# Altium footprint library Discretes.PCBLIB: 77 footprints (part 4 of 5)
Each footprint in its own frame and in the unit in brackets; x right, y up, seen from the top. Pads: shape width x height; smd on the part's side, far side on the other; paste and mask are expansions set on the pad; w line width, h text height; cw(c..) or ccw(c..) is an arc to the next point about the centre after c.
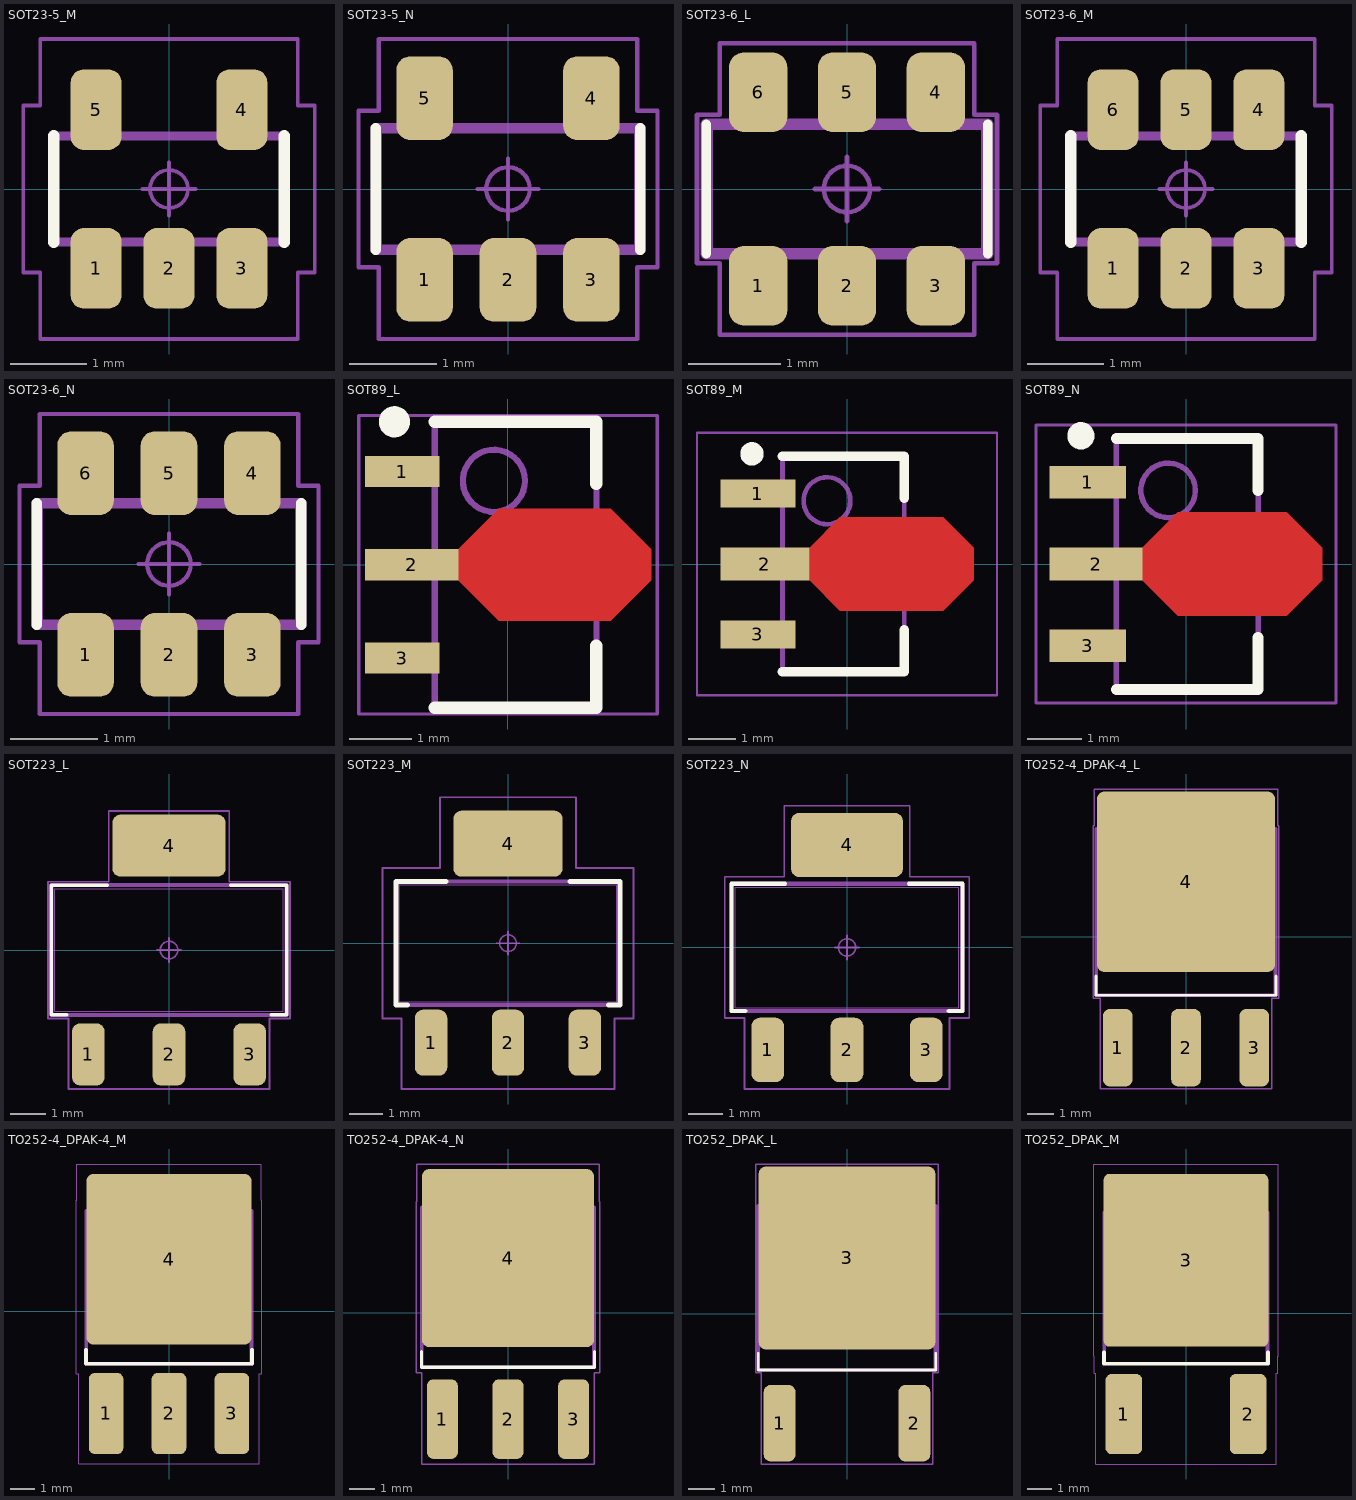
[diagram p3: the footprints below, top view; thin cyan lines are the x and y axes]

## SOT23-5_M [mm] "Small Outline Transistor (SOT23), 0.96 mm pitch; 5 pin, 2.92 mm L X 1.30 mm W X 1.12 mm H body"
height 1.12
pads (5):
  rrect51% 0.67x1.06 smd: 1(-0.96,-1.045) 2(0,-1.045) 3(0.96,-1.045) 4(0.96,1.045) 5(-0.96,1.045)
Top Overlay:
  lines w0.15: -1.52,-0.7 -1.52,0.7 ; 1.52,-0.7 1.52,0.7
Top Body, 3D Models:
  lines w0.025: -1.46,-0.65 1.46,-0.65 1.46,0.65 -1.46,0.65 -1.46,-0.65
Top Courtyard:
  circle w0.05: c0,0 r0.25
  lines w0.05: -0.35,0 0.35,0 ; 0,-0.35 0,0.35 ; -1.92,-1.1 -1.695,-1.1 -1.695,-1.975 1.695,-1.975 1.695,-1.1 1.92,-1.1 1.92,1.1 1.695,1.1 1.695,1.975 -1.695,1.975 -1.695,1.1 -1.92,1.1 -1.92,-1.1
Top DesignatorDoc:
  text ".Designator" at 0,0 h1.5
Top Pad Outlines:
  lines w0.025: -1.18,-1.185 -1.18,-0.96 -0.74,-0.96 -0.74,-1.185 -1.18,-1.185 ; -1.18,0.96 -1.18,1.185 -0.74,1.185 -0.74,0.96 -1.18,0.96 ; -0.22,-1.185 -0.22,-0.96 0.22,-0.96 0.22,-1.185 -0.22,-1.185 ; 0.74,-1.185 0.74,-0.96 1.18,-0.96 1.18,-1.185 0.74,-1.185 ; 0.74,0.96 0.74,1.185 1.18,1.185 1.18,0.96 0.74,0.96
Top Assembly Outline:
  lines w0.12: -1.52,-0.7 1.52,-0.7 1.52,0.7 -1.52,0.7 -1.52,-0.7
3D body "SOT23-5_M.STEP": height 1.12, standoff 0, extent -1.46,-1.185 1.46,1.185

## SOT23-5_N [mm] "Small Outline Transistor (SOT23), 0.96 mm pitch; 5 pin, 2.92 mm L X 1.30 mm W X 1.12 mm H body"
height 1.12
pads (5):
  rrect49% 0.65x0.96 smd: 1(-0.96,-1.045) 2(0,-1.045) 3(0.96,-1.045) 4(0.96,1.045) 5(-0.96,1.045)
Top Overlay:
  lines w0.12: -1.52,-0.7 -1.52,0.7 ; 1.52,-0.7 1.52,0.7
Top Body, 3D Models:
  lines w0.025: -1.46,-0.65 1.46,-0.65 1.46,0.65 -1.46,0.65 -1.46,-0.65
Top Courtyard:
  circle w0.05: c0,0 r0.25
  lines w0.05: -0.35,0 0.35,0 ; 0,-0.35 0,0.35 ; -1.72,-0.9 -1.485,-0.9 -1.485,-1.725 1.485,-1.725 1.485,-0.9 1.72,-0.9 1.72,0.9 1.485,0.9 1.485,1.725 -1.485,1.725 -1.485,0.9 -1.72,0.9 -1.72,-0.9
Top DesignatorDoc:
  text ".Designator" at 0,0 h1.2
Top Pad Outlines:
  lines w0.025: -1.18,-1.185 -1.18,-0.96 -0.74,-0.96 -0.74,-1.185 -1.18,-1.185 ; -1.18,0.96 -1.18,1.185 -0.74,1.185 -0.74,0.96 -1.18,0.96 ; -0.22,-1.185 -0.22,-0.96 0.22,-0.96 0.22,-1.185 -0.22,-1.185 ; 0.74,-1.185 0.74,-0.96 1.18,-0.96 1.18,-1.185 0.74,-1.185 ; 0.74,0.96 0.74,1.185 1.18,1.185 1.18,0.96 0.74,0.96
Top Assembly Outline:
  lines w0.12: -1.52,-0.7 1.52,-0.7 1.52,0.7 -1.52,0.7 -1.52,-0.7
3D body "SOT23-5_N.STEP": height 1.12, standoff 0, extent -1.46,-1.185 1.46,1.185

## SOT23-6_L [mm] "Small Outline Transistor (SOT23), 0.96 mm pitch; 6 pin, 2.92 mm L X 1.30 mm W X 1.12 mm H body"
height 1.12
pads (6):
  rrect51% 0.63x0.86 smd: 1(-0.96,-1.045) 2(0,-1.045) 3(0.96,-1.045) 4(0.96,1.045) 5(0,1.045) 6(-0.96,1.045)
Top Overlay:
  lines w0.1: -1.52,-0.7 -1.52,0.7 ; 1.52,-0.7 1.52,0.7
Top Body, 3D Models:
  lines w0.025: -1.46,-0.65 -1.46,0.65 1.46,0.65 1.46,-0.65 -1.46,-0.65
Top Courtyard:
  circle w0.05: c0,0 r0.25
  lines w0.05: -0.35,0 0.35,0 ; 0,-0.35 0,0.35 ; -1.62,-0.8 -1.62,0.8 -1.375,0.8 -1.375,1.575 1.375,1.575 1.375,0.8 1.62,0.8 1.62,-0.8 1.375,-0.8 1.375,-1.575 -1.375,-1.575 -1.375,-0.8 -1.62,-0.8
Top DesignatorDoc:
  text ".Designator" at 0,0 h1
Top Pad Outlines:
  lines w0.025: -1.18,-1.185 -0.74,-1.185 -0.74,-0.96 -1.18,-0.96 -1.18,-1.185 ; -1.18,0.96 -0.74,0.96 -0.74,1.185 -1.18,1.185 -1.18,0.96 ; -0.22,-1.185 0.22,-1.185 0.22,-0.96 -0.22,-0.96 -0.22,-1.185 ; -0.22,0.96 0.22,0.96 0.22,1.185 -0.22,1.185 -0.22,0.96 ; 0.74,-1.185 1.18,-1.185 1.18,-0.96 0.74,-0.96 0.74,-1.185 ; 0.74,0.96 1.18,0.96 1.18,1.185 0.74,1.185 0.74,0.96
Top Assembly Outline:
  lines w0.12: -1.52,-0.7 -1.52,0.7 1.52,0.7 1.52,-0.7 -1.52,-0.7
3D body "SOT23-6_L.STEP": height 1.12, standoff 0, extent -1.46,-1.185 1.46,1.185

## SOT23-6_M [mm] "Small Outline Transistor (SOT23), 0.96 mm pitch; 6 pin, 2.92 mm L X 1.30 mm W X 1.12 mm H body"
height 1.12
pads (6):
  rrect51% 0.67x1.06 smd: 1(-0.96,-1.045) 2(0,-1.045) 3(0.96,-1.045) 4(0.96,1.045) 5(0,1.045) 6(-0.96,1.045)
Top Overlay:
  lines w0.15: -1.52,-0.7 -1.52,0.7 ; 1.52,-0.7 1.52,0.7
Top Body, 3D Models:
  lines w0.025: -1.46,-0.65 1.46,-0.65 1.46,0.65 -1.46,0.65 -1.46,-0.65
Top Courtyard:
  circle w0.05: c0,0 r0.25
  lines w0.05: -0.35,0 0.35,0 ; 0,-0.35 0,0.35 ; -1.92,-1.1 -1.695,-1.1 -1.695,-1.975 1.695,-1.975 1.695,-1.1 1.92,-1.1 1.92,1.1 1.695,1.1 1.695,1.975 -1.695,1.975 -1.695,1.1 -1.92,1.1 -1.92,-1.1
Top DesignatorDoc:
  text ".Designator" at 0,0 h1.5
Top Pad Outlines:
  lines w0.025: -1.18,-1.185 -1.18,-0.96 -0.74,-0.96 -0.74,-1.185 -1.18,-1.185 ; -1.18,0.96 -1.18,1.185 -0.74,1.185 -0.74,0.96 -1.18,0.96 ; -0.22,-1.185 -0.22,-0.96 0.22,-0.96 0.22,-1.185 -0.22,-1.185 ; -0.22,0.96 -0.22,1.185 0.22,1.185 0.22,0.96 -0.22,0.96 ; 0.74,-1.185 0.74,-0.96 1.18,-0.96 1.18,-1.185 0.74,-1.185 ; 0.74,0.96 0.74,1.185 1.18,1.185 1.18,0.96 0.74,0.96
Top Assembly Outline:
  lines w0.12: -1.52,-0.7 1.52,-0.7 1.52,0.7 -1.52,0.7 -1.52,-0.7
3D body "SOT23-6_M.STEP": height 1.12, standoff 0, extent -1.46,-1.185 1.46,1.185

## SOT23-6_N [mm] "Small Outline Transistor (SOT23), 0.96 mm pitch; 6 pin, 2.92 mm L X 1.30 mm W X 1.12 mm H body"
height 1.12
pads (6):
  rrect49% 0.65x0.96 smd: 1(-0.96,-1.045) 2(0,-1.045) 3(0.96,-1.045) 4(0.96,1.045) 5(0,1.045) 6(-0.96,1.045)
Top Overlay:
  lines w0.12: -1.52,-0.7 -1.52,0.7 ; 1.52,-0.7 1.52,0.7
Top Body, 3D Models:
  lines w0.025: -1.46,-0.65 1.46,-0.65 1.46,0.65 -1.46,0.65 -1.46,-0.65
Top Courtyard:
  circle w0.05: c0,0 r0.25
  lines w0.05: -0.35,0 0.35,0 ; 0,-0.35 0,0.35 ; -1.72,-0.9 -1.485,-0.9 -1.485,-1.725 1.485,-1.725 1.485,-0.9 1.72,-0.9 1.72,0.9 1.485,0.9 1.485,1.725 -1.485,1.725 -1.485,0.9 -1.72,0.9 -1.72,-0.9
Top DesignatorDoc:
  text ".Designator" at 0,0 h1.2
Top Pad Outlines:
  lines w0.025: -1.18,-1.185 -1.18,-0.96 -0.74,-0.96 -0.74,-1.185 -1.18,-1.185 ; -1.18,0.96 -1.18,1.185 -0.74,1.185 -0.74,0.96 -1.18,0.96 ; -0.22,-1.185 -0.22,-0.96 0.22,-0.96 0.22,-1.185 -0.22,-1.185 ; -0.22,0.96 -0.22,1.185 0.22,1.185 0.22,0.96 -0.22,0.96 ; 0.74,-1.185 0.74,-0.96 1.18,-0.96 1.18,-1.185 0.74,-1.185 ; 0.74,0.96 0.74,1.185 1.18,1.185 1.18,0.96 0.74,0.96
Top Assembly Outline:
  lines w0.12: -1.52,-0.7 1.52,-0.7 1.52,0.7 -1.52,0.7 -1.52,-0.7
3D body "SOT23-6_N.STEP": height 1.12, standoff 0, extent -1.46,-1.185 1.46,1.185

## SOT89_L [mm] "SOT89, 3-Leads, Body 4.50x2.45mm, Pitch 1.50mm, Lead Span 4.1mm, IPC High Density"
height 1.6
pads (3):
  rect 1.2x0.5 smd: 1(-1.7,1.5) 3(-1.7,-1.5)
  rect 1.5x0.5 smd: 2(-1.55,0)
Top Layer:
  region: -0.8,0.25 -0.15,0.9 1.65,0.9 2.3,0.25 2.3,-0.25 1.65,-0.9 -0.15,-0.9 -0.8,-0.25
Top Overlay:
  circle w0.25: c-1.827,2.3 r0.125
  lines w0.2: -1.177,-2.3 1.423,-2.3 1.423,-1.3 ; -1.177,2.3 1.423,2.3 1.423,1.3
Top Courtyard:
  lines w0.05: -2.4,-2.4 2.4,-2.4 2.4,2.4 -2.4,2.4 -2.4,-2.4
  lines w0.1: -0.377,0 0.623,0 ; 0.123,-0.5 0.123,0.5
Top DesignatorDoc:
  text ".Designator" at 0,0 h1
Top Assembly Outline:
  circle w0.1: c-0.227,1.35 r0.5
  lines w0.1: -1.177,-2.3 1.423,-2.3 1.423,2.3 -1.177,2.3 -1.177,-2.3
3D body "SOT89-L.step": height 1.6, standoff 0, extent -2.2,-2.297 1.93,2.297

## SOT89_M [mm] "SOT89, 3-Leads, Body 4.50x2.45mm, Pitch 1.50mm, Lead Span 4.1mm, IPC Low Density"
height 1.6
pads (3):
  rect 1.6x0.6 smd: 1(-1.9,1.5) 3(-1.9,-1.5)
  rect 1.9x0.7 smd: 2(-1.75,0)
Top Layer:
  region: -0.8,0.35 -0.15,1 2.05,1 2.7,0.35 2.7,-0.35 2.05,-1 -0.15,-1 -0.8,-0.35
Top Overlay:
  circle w0.25: c-2.028,2.35 r0.125
  lines w0.2: -1.378,-2.3 1.222,-2.3 1.222,-1.4 ; -1.378,2.3 1.222,2.3 1.222,1.4
Top Courtyard:
  lines w0.05: -3.2,-2.8 -3.2,2.8 3.2,2.8 3.2,-2.8 -3.2,-2.8
  lines w0.1: -0.578,0 0.422,0 ; -0.078,-0.5 -0.078,0.5
Top DesignatorDoc:
  text ".Designator" at 0,0 h1.5
Top Assembly Outline:
  circle w0.1: c-0.427,1.35 r0.5
  lines w0.1: -1.378,-2.3 1.222,-2.3 1.222,2.3 -1.378,2.3 -1.378,-2.3
3D body "SOT89_M.step": height 1.6, standoff 0, extent -2.2,-2.297 1.93,2.297

## SOT89_N [mm] "SOT89, 3-Leads, Body 4.50x2.45mm, Pitch 1.50mm, Lead Span 4.1mm, IPC Medium Density"
height 1.6
pads (3):
  rect 1.4x0.6 smd: 1(-1.8,1.5) 3(-1.8,-1.5)
  rect 1.7x0.6 smd: 2(-1.65,0)
Top Layer:
  region: -0.8,0.3 -0.15,0.95 1.85,0.95 2.5,0.3 2.5,-0.3 1.85,-0.95 -0.15,-0.95 -0.8,-0.3
Top Overlay:
  circle w0.25: c-1.928,2.35 r0.125
  lines w0.2: -1.278,-2.3 1.322,-2.3 1.322,-1.35 ; -1.278,2.3 1.322,2.3 1.322,1.35
Top Courtyard:
  lines w0.05: -2.75,-2.55 2.75,-2.55 2.75,2.55 -2.75,2.55 -2.75,-2.55
  lines w0.1: -0.478,0 0.522,0 ; 0.022,-0.5 0.022,0.5
Top DesignatorDoc:
  text ".Designator" at 0,0 h1.2
Top Assembly Outline:
  circle w0.1: c-0.327,1.35 r0.5
  lines w0.1: -1.278,-2.3 1.322,-2.3 1.322,2.3 -1.278,2.3 -1.278,-2.3
3D body "SOT89_N.step": height 1.6, standoff 0, extent -2.2,-2.297 1.93,2.297

## SOT223_L [mm] "Small Outline Transistor (SOT223), 2.30 mm pitch; 4 pin, 6.50 mm L X 3.50 mm W X 1.80 mm H body"
height 1.8
pads (4):
  rrect49% 0.93x1.77 smd: 1(-2.3,-2.975) 2(0,-2.975) 3(2.3,-2.975)
  rrect26% 3.23x1.77 smd: 4(0,2.975)
Top Overlay:
  lines w0.1: -2.915,-1.85 -3.35,-1.85 -3.35,1.85 -1.765,1.85 ; 1.765,1.85 3.35,1.85 3.35,-1.85 2.915,-1.85
Top Body, 3D Models:
  lines w0.025: -3.25,-1.75 3.25,-1.75 3.25,1.75 -3.25,1.75 -3.25,-1.75
Top Courtyard:
  circle w0.05: c0,0 r0.25
  lines w0.05: -0.35,0 0.35,0 ; 0,-0.35 0,0.35 ; -3.45,-1.95 -2.865,-1.95 -2.865,-3.96 2.865,-3.96 2.865,-1.95 3.45,-1.95 3.45,1.95 1.715,1.95 1.715,3.96 -1.715,3.96 -1.715,1.95 -3.45,1.95 -3.45,-1.95
Top DesignatorDoc:
  text ".Designator" at 0,0 h1
Top Pad Outlines:
  lines w0.025: -2.65,-3.5 -2.65,-2.6 -1.95,-2.6 -1.95,-3.5 -2.65,-3.5 ; -1.5,2.6 -1.5,3.5 1.5,3.5 1.5,2.6 -1.5,2.6 ; -0.35,-3.5 -0.35,-2.6 0.35,-2.6 0.35,-3.5 -0.35,-3.5 ; 1.95,-3.5 1.95,-2.6 2.65,-2.6 2.65,-3.5 1.95,-3.5
Top Assembly Outline:
  lines w0.12: -3.35,-1.85 3.35,-1.85 3.35,1.85 -3.35,1.85 -3.35,-1.85
3D body "SOT223_L.STEP": height 1.8, standoff 0, extent -3.25,-3.5 3.25,3.5

## SOT223_M [mm] "Small Outline Transistor (SOT223), 2.30 mm pitch; 4 pin, 6.50 mm L X 3.50 mm W X 1.80 mm H body"
height 1.8
pads (4):
  rrect49% 0.97x1.97 smd: 1(-2.3,-2.975) 2(0,-2.975) 3(2.3,-2.975)
  rrect24% 3.27x1.97 smd: 4(0,2.975)
Top Overlay:
  lines w0.15: -3.01,-1.85 -3.35,-1.85 -3.35,1.85 -1.86,1.85 ; 1.86,1.85 3.35,1.85 3.35,-1.85 3.01,-1.85
Top Body, 3D Models:
  lines w0.025: -3.25,-1.75 3.25,-1.75 3.25,1.75 -3.25,1.75 -3.25,-1.75
Top Courtyard:
  circle w0.05: c0,0 r0.25
  lines w0.05: -0.35,0 0.35,0 ; 0,-0.35 0,0.35 ; -3.75,-2.25 -3.185,-2.25 -3.185,-4.36 3.185,-4.36 3.185,-2.25 3.75,-2.25 3.75,2.25 2.035,2.25 2.035,4.36 -2.035,4.36 -2.035,2.25 -3.75,2.25 -3.75,-2.25
Top DesignatorDoc:
  text ".Designator" at 0,0 h1.5
Top Pad Outlines:
  lines w0.025: -2.65,-3.5 -2.65,-2.6 -1.95,-2.6 -1.95,-3.5 -2.65,-3.5 ; -1.5,2.6 -1.5,3.5 1.5,3.5 1.5,2.6 -1.5,2.6 ; -0.35,-3.5 -0.35,-2.6 0.35,-2.6 0.35,-3.5 -0.35,-3.5 ; 1.95,-3.5 1.95,-2.6 2.65,-2.6 2.65,-3.5 1.95,-3.5
Top Assembly Outline:
  lines w0.12: -3.35,-1.85 3.35,-1.85 3.35,1.85 -3.35,1.85 -3.35,-1.85
3D body "SOT223_M.STEP": height 1.8, standoff 0, extent -3.25,-3.5 3.25,3.5

## SOT223_N [mm] "Small Outline Transistor (SOT223), 2.30 mm pitch; 4 pin, 6.50 mm L X 3.50 mm W X 1.80 mm H body"
height 1.8
pads (4):
  rrect51% 0.95x1.87 smd: 1(-2.3,-2.975) 2(0,-2.975) 3(2.3,-2.975)
  rrect26% 3.25x1.87 smd: 4(0,2.975)
Top Overlay:
  lines w0.12: -2.955,-1.85 -3.35,-1.85 -3.35,1.85 -1.805,1.85 ; 1.805,1.85 3.35,1.85 3.35,-1.85 2.955,-1.85
Top Body, 3D Models:
  lines w0.025: -3.25,-1.75 3.25,-1.75 3.25,1.75 -3.25,1.75 -3.25,-1.75
Top Courtyard:
  circle w0.05: c0,0 r0.25
  lines w0.05: -0.35,0 0.35,0 ; 0,-0.35 0,0.35 ; -3.55,-2.05 -2.975,-2.05 -2.975,-4.11 2.975,-4.11 2.975,-2.05 3.55,-2.05 3.55,2.05 1.825,2.05 1.825,4.11 -1.825,4.11 -1.825,2.05 -3.55,2.05 -3.55,-2.05
Top DesignatorDoc:
  text ".Designator" at 0,0 h1.2
Top Pad Outlines:
  lines w0.025: -2.65,-3.5 -2.65,-2.6 -1.95,-2.6 -1.95,-3.5 -2.65,-3.5 ; -1.5,2.6 -1.5,3.5 1.5,3.5 1.5,2.6 -1.5,2.6 ; -0.35,-3.5 -0.35,-2.6 0.35,-2.6 0.35,-3.5 -0.35,-3.5 ; 1.95,-3.5 1.95,-2.6 2.65,-2.6 2.65,-3.5 1.95,-3.5
Top Assembly Outline:
  lines w0.12: -3.35,-1.85 3.35,-1.85 3.35,1.85 -3.35,1.85 -3.35,-1.85
3D body "SOT223_N.STEP": height 1.8, standoff 0, extent -3.25,-3.5 3.25,3.5

## TO252-4_DPAK-4_L [mm] "DPAK, 2.54 mm pitch; 3 pin, 6.10 mm L X 6.575 mm W X 2.38 mm H body"
height 2.38
pads (4):
  rrect45% 1.1x2.88 smd: 1(-2.54,-4.12) 2(0,-4.12) 3(2.54,-4.12)
  rrect8% 6.63x6.71 smd paste-6.71: 4(0,2.05)
Top Overlay:
  lines w0.1: -3.35,-1.455 -3.35,-2.175 3.35,-2.175 3.35,-1.455
Top Paste:
  region: -1.43,3.495 -2.99,3.495 -2.99,5.085 -1.43,5.085
  region: -1.43,1.255 -2.99,1.255 -2.99,2.845 -1.43,2.845
  region: -1.43,-0.985 -2.99,-0.985 -2.99,0.605 -1.43,0.605
  region: 0.78,3.495 -0.78,3.495 -0.78,5.085 0.78,5.085
  region: 0.78,1.255 -0.78,1.255 -0.78,2.845 0.78,2.845
  region: 0.78,-0.985 -0.78,-0.985 -0.78,0.605 0.78,0.605
  region: 2.99,3.495 1.43,3.495 1.43,5.085 2.99,5.085
  region: 2.99,1.255 1.43,1.255 1.43,2.845 2.99,2.845
  region: 2.99,-0.985 1.43,-0.985 1.43,0.605 2.99,0.605
Top Body, 3D Models:
  lines w0.025: -3.287,-2.125 3.287,-2.125 3.287,3.975 -3.287,3.975 -3.287,-2.125
Top Courtyard:
  circle w0.05: c0,0 r0.25
  lines w0.05: -0.35,0 0.35,0 ; 0,-0.35 0,0.35 ; -3.45,-2.28 -3.19,-2.28 -3.19,-5.66 3.19,-5.66 3.19,-2.28 3.45,-2.28 3.45,4.13 3.415,4.13 3.415,5.505 -3.415,5.505 -3.415,4.13 -3.45,4.13 -3.45,-2.28
Top DesignatorDoc:
  text ".Designator" at 0,0 h1
Top Pad Outlines:
  lines w0.025: -3.25,-1.048 -3.25,4.952 3.25,4.952 3.25,-1.048 -3.25,-1.048 ; -2.92,-4.952 -2.92,-3.363 -2.16,-3.363 -2.16,-4.952 -2.92,-4.952 ; -0.38,-4.952 -0.38,-3.363 0.38,-3.363 0.38,-4.952 -0.38,-4.952 ; 2.16,-4.952 2.16,-3.363 2.92,-3.363 2.92,-4.952 2.16,-4.952
Top Assembly Outline:
  lines w0.12: -3.35,-2.175 -3.35,4.025 3.35,4.025 3.35,-2.175 -3.35,-2.175
3D body "DPAK-4_TO252-4_L.STEP": height 2.38, standoff 0, extent -3.287,-4.952 3.287,4.952

## TO252-4_DPAK-4_M [mm] "DPAK, 2.54 mm pitch; 3 pin, 6.10 mm L X 6.575 mm W X 2.38 mm H body"
height 2.38
pads (4):
  rrect36% 1.4x3.28 smd: 1(-2.54,-4.12) 2(0,-4.12) 3(2.54,-4.12)
  rrect8% 6.67x6.89 smd paste-6.89: 4(0,2.11)
Top Overlay:
  lines w0.15: -3.35,-1.56 -3.35,-2.115 3.35,-2.115 3.35,-1.56
Top Paste:
  region: -1.44,3.585 -3,3.585 -3,5.215 -1.44,5.215
  region: -1.44,1.295 -3,1.295 -3,2.925 -1.44,2.925
  region: -1.44,-0.995 -3,-0.995 -3,0.635 -1.44,0.635
  region: 0.78,3.585 -0.78,3.585 -0.78,5.215 0.78,5.215
  region: 0.78,1.295 -0.78,1.295 -0.78,2.925 0.78,2.925
  region: 0.78,-0.995 -0.78,-0.995 -0.78,0.635 0.78,0.635
  region: 3,3.585 1.44,3.585 1.44,5.215 3,5.215
  region: 3,1.295 1.44,1.295 1.44,2.925 3,2.925
  region: 3,-0.995 1.44,-0.995 1.44,0.635 3,0.635
Top Body, 3D Models:
  lines w0.025: -3.287,-2.065 3.287,-2.065 3.287,4.035 -3.287,4.035 -3.287,-2.065
Top Courtyard:
  circle w0.05: c0,0 r0.25
  lines w0.05: -0.35,0 0.35,0 ; 0,-0.35 0,0.35 ; -3.75,-2.52 -3.64,-2.52 -3.64,-6.16 3.64,-6.16 3.64,-2.52 3.75,-2.52 3.75,4.49 3.735,4.49 3.735,5.955 -3.735,5.955 -3.735,4.49 -3.75,4.49 -3.75,-2.52
Top DesignatorDoc:
  text ".Designator" at 0,0 h1.5
Top Pad Outlines:
  lines w0.025: -3.25,-1.048 -3.25,4.952 3.25,4.952 3.25,-1.048 -3.25,-1.048 ; -2.92,-4.952 -2.92,-3.363 -2.16,-3.363 -2.16,-4.952 -2.92,-4.952 ; -0.38,-4.952 -0.38,-3.363 0.38,-3.363 0.38,-4.952 -0.38,-4.952 ; 2.16,-4.952 2.16,-3.363 2.92,-3.363 2.92,-4.952 2.16,-4.952
Top Assembly Outline:
  lines w0.12: -3.35,-2.115 -3.35,4.085 3.35,4.085 3.35,-2.115 -3.35,-2.115
3D body "DPAK-4_TO252-4_M.STEP": height 2.38, standoff 0, extent -3.287,-4.952 3.287,4.952

## TO252-4_DPAK-4_N [mm] "DPAK, 2.54 mm pitch; 3 pin, 6.10 mm L X 6.575 mm W X 2.38 mm H body"
height 2.38
pads (4):
  rrect42% 1.2x3.08 smd: 1(-2.54,-4.12) 2(0,-4.12) 3(2.54,-4.12)
  rrect8% 6.67x6.89 smd paste-6.89: 4(0,2.11)
Top Overlay:
  lines w0.12: -3.35,-1.515 -3.35,-2.115 3.35,-2.115 3.35,-1.515
Top Paste:
  region: 3,-0.995 1.44,-0.995 1.44,0.635 3,0.635
  region: 3,1.295 1.44,1.295 1.44,2.925 3,2.925
  region: 3,3.585 1.44,3.585 1.44,5.215 3,5.215
  region: 0.78,-0.995 -0.78,-0.995 -0.78,0.635 0.78,0.635
  region: 0.78,1.295 -0.78,1.295 -0.78,2.925 0.78,2.925
  region: 0.78,3.585 -0.78,3.585 -0.78,5.215 0.78,5.215
  region: -1.44,-0.995 -3,-0.995 -3,0.635 -1.44,0.635
  region: -1.44,1.295 -3,1.295 -3,2.925 -1.44,2.925
  region: -1.44,3.585 -3,3.585 -3,5.215 -1.44,5.215
Top Body, 3D Models:
  lines w0.025: -3.287,-2.065 -3.287,4.035 3.287,4.035 3.287,-2.065 -3.287,-2.065
Top Courtyard:
  circle w0.05: c0,0 r0.25
  lines w0.05: -0.35,0 0.35,0 ; 0,-0.35 0,0.35 ; -3.55,-2.32 -3.55,4.29 -3.535,4.29 -3.535,5.755 3.535,5.755 3.535,4.29 3.55,4.29 3.55,-2.32 3.34,-2.32 3.34,-5.86 -3.34,-5.86 -3.34,-2.32 -3.55,-2.32
Top DesignatorDoc:
  text ".Designator" at 0,0 h1.2
Top Pad Outlines:
  lines w0.025: -3.25,-1.048 3.25,-1.048 3.25,4.952 -3.25,4.952 -3.25,-1.048 ; -2.92,-4.952 -2.16,-4.952 -2.16,-3.363 -2.92,-3.363 -2.92,-4.952 ; -0.38,-4.952 0.38,-4.952 0.38,-3.363 -0.38,-3.363 -0.38,-4.952 ; 2.16,-4.952 2.92,-4.952 2.92,-3.363 2.16,-3.363 2.16,-4.952
Top Assembly Outline:
  lines w0.12: -3.35,-2.115 3.35,-2.115 3.35,4.085 -3.35,4.085 -3.35,-2.115
3D body "DPAK-4_TO252-4_N.STEP": height 2.38, standoff 0, extent -3.287,-4.952 3.287,4.952

## TO252_DPAK_L [mm] "DPAK, 5.08 mm pitch; 2 pin, 6.10 mm L X 6.575 mm W X 2.38 mm H body"
height 2.38
pads (3):
  rrect42% 1.2x2.88 smd: 1(-2.54,-4.12) 2(2.54,-4.12)
  rrect8% 6.67x6.89 smd paste-6.89: 3(0,2.11)
Top Overlay:
  lines w0.1: -3.35,-1.485 -3.35,-2.115 3.35,-2.115 3.35,-1.485
Top Paste:
  region: -1.44,3.585 -3,3.585 -3,5.215 -1.44,5.215
  region: -1.44,1.295 -3,1.295 -3,2.925 -1.44,2.925
  region: -1.44,-0.995 -3,-0.995 -3,0.635 -1.44,0.635
  region: 0.78,3.585 -0.78,3.585 -0.78,5.215 0.78,5.215
  region: 0.78,1.295 -0.78,1.295 -0.78,2.925 0.78,2.925
  region: 0.78,-0.995 -0.78,-0.995 -0.78,0.635 0.78,0.635
  region: 3,3.585 1.44,3.585 1.44,5.215 3,5.215
  region: 3,1.295 1.44,1.295 1.44,2.925 3,2.925
  region: 3,-0.995 1.44,-0.995 1.44,0.635 3,0.635
Top Body, 3D Models:
  lines w0.025: -3.287,-2.065 3.287,-2.065 3.287,4.035 -3.287,4.035 -3.287,-2.065
Top Courtyard:
  circle w0.05: c0,0 r0.25
  lines w0.05: -0.35,0 0.35,0 ; 0,-0.35 0,0.35 ; -3.45,-2.22 -3.24,-2.22 -3.24,-5.66 3.24,-5.66 3.24,-2.22 3.45,-2.22 3.45,4.19 3.435,4.19 3.435,5.655 -3.435,5.655 -3.435,4.19 -3.45,4.19 -3.45,-2.22
Top DesignatorDoc:
  text ".Designator" at 0,0 h1
Top Pad Outlines:
  lines w0.025: -3.25,-1.048 -3.25,4.952 3.25,4.952 3.25,-1.048 -3.25,-1.048 ; -2.92,-4.952 -2.92,-3.363 -2.16,-3.363 -2.16,-4.952 -2.92,-4.952 ; 2.16,-4.952 2.16,-3.363 2.92,-3.363 2.92,-4.952 2.16,-4.952
Top Assembly Outline:
  lines w0.12: -3.35,-2.115 -3.35,4.085 3.35,4.085 3.35,-2.115 -3.35,-2.115
3D body "DPAK_TO252_L.STEP": height 2.38, standoff 0, extent -3.287,-4.952 3.287,4.952

## TO252_DPAK_M [mm] "DPAK, 5.08 mm pitch; 2 pin, 6.10 mm L X 6.575 mm W X 2.38 mm H body"
height 2.38
pads (3):
  rrect33% 1.5x3.28 smd: 1(-2.54,-4.12) 2(2.54,-4.12)
  rrect7% 6.73x7.07 smd paste-7.07: 3(0,2.17)
Top Overlay:
  lines w0.15: -3.35,-1.59 -3.35,-2.055 3.35,-2.055 3.35,-1.59
Top Paste:
  region: -1.455,4.195 -3.025,4.195 -3.025,5.455 -1.455,5.455
  region: -1.455,2.425 -3.025,2.425 -3.025,3.685 -1.455,3.685
  region: -1.455,0.655 -3.025,0.655 -3.025,1.915 -1.455,1.915
  region: -1.455,-1.115 -3.025,-1.115 -3.025,0.145 -1.455,0.145
  region: 0.785,4.195 -0.785,4.195 -0.785,5.455 0.785,5.455
  region: 0.785,2.425 -0.785,2.425 -0.785,3.685 0.785,3.685
  region: 0.785,0.655 -0.785,0.655 -0.785,1.915 0.785,1.915
  region: 0.785,-1.115 -0.785,-1.115 -0.785,0.145 0.785,0.145
  region: 3.025,4.195 1.455,4.195 1.455,5.455 3.025,5.455
  region: 3.025,2.425 1.455,2.425 1.455,3.685 3.025,3.685
  region: 3.025,0.655 1.455,0.655 1.455,1.915 3.025,1.915
  region: 3.025,-1.115 1.455,-1.115 1.455,0.145 3.025,0.145
Top Body, 3D Models:
  lines w0.025: -3.287,-2.005 3.287,-2.005 3.287,4.095 -3.287,4.095 -3.287,-2.005
Top Courtyard:
  circle w0.05: c0,0 r0.25
  lines w0.05: -0.35,0 0.35,0 ; 0,-0.35 0,0.35 ; -3.765,-1.765 -3.75,-1.765 -3.75,-2.46 -3.69,-2.46 -3.69,-6.16 3.69,-6.16 3.69,-2.46 3.75,-2.46 3.75,-1.765 3.765,-1.765 3.765,6.105 -3.765,6.105 -3.765,-1.765
Top DesignatorDoc:
  text ".Designator" at 0,0 h1.5
Top Pad Outlines:
  lines w0.025: -3.25,-1.048 -3.25,4.952 3.25,4.952 3.25,-1.048 -3.25,-1.048 ; -2.92,-4.952 -2.92,-3.363 -2.16,-3.363 -2.16,-4.952 -2.92,-4.952 ; 2.16,-4.952 2.16,-3.363 2.92,-3.363 2.92,-4.952 2.16,-4.952
Top Assembly Outline:
  lines w0.12: -3.35,-2.055 -3.35,4.145 3.35,4.145 3.35,-2.055 -3.35,-2.055
3D body "DPAK_TO252_M.STEP": height 2.38, standoff 0, extent -3.287,-4.952 3.287,4.952